# EAGLE library part 000_ESP32_D1MINI (library 01jim)
PIN HEADER
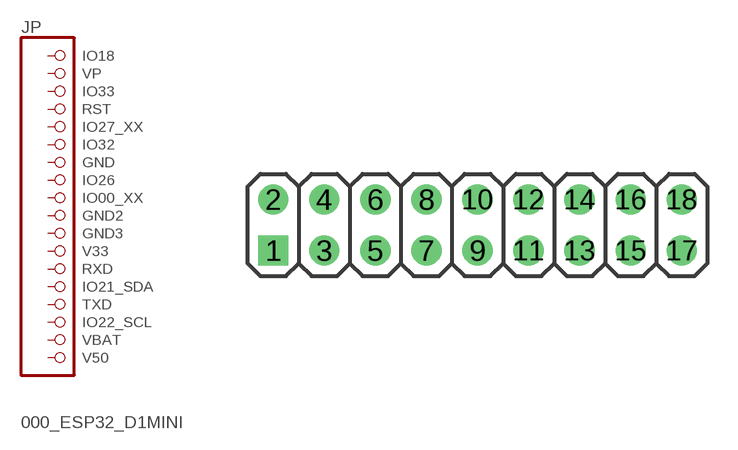
[diagram p1: symbol with the pads of 00_2X9; footprint 00_2X9]

Designator prefix JP

## 000_ESP32_D1MINI  [00_2X9]
1  IO18  pas
2  VP  pas
3  IO33  pas
4  RST  pas
5  IO27_XX  pas
6  IO32  pas
7  GND  pwr
8  IO26  pas
9  IO00_XX  pas
10  GND2  pwr
11  GND3  pwr
12  V33  pas
13  RXD  pas
14  IO21_SDA  pas
15  TXD  pas
16  IO22_SCL  pas
17  VBAT  pas
18  V50  pwr

## Footprint 00_2X9 (pad centres in mm)
drill 1 square: 1 0,0
drill 1: 2 0,2.54; 3 2.54,0; 4 2.54,2.54; 5 5.08,0; 6 5.08,2.54; 7 7.62,0; 8 7.62,2.54; 9 10.16,0; 10 10.16,2.54; 11 12.7,0; 12 12.7,2.54; 13 15.24,0; 14 15.24,2.54; 15 17.78,0; 16 17.78,2.54; 17 20.32,0; 18 20.32,2.54